# EAGLE library part 2X5 (library Ilya_Teach)
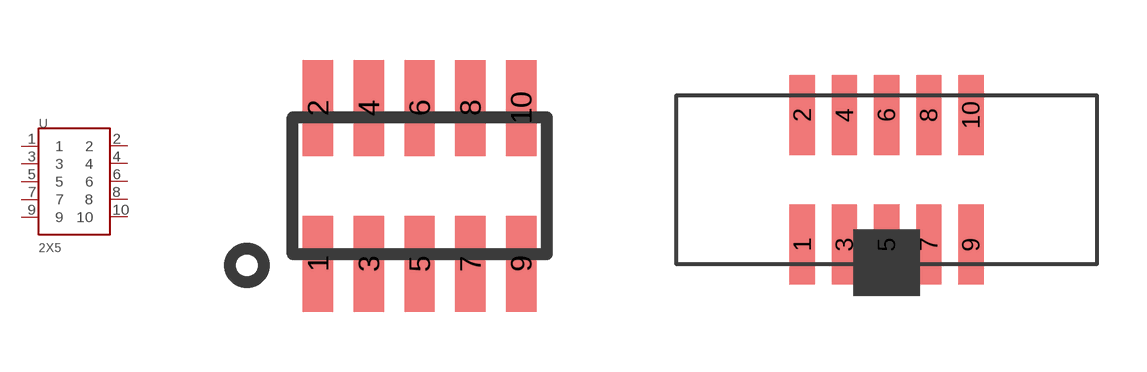
[diagram p2: symbol with the pads of 2X5-FCI_UNSHROUDED; footprints 2X5-FCI_UNSHROUDED, 2X5-1.27MM-SHROUDED]

Designator prefix -

## 2X5A  [2X5-FCI_UNSHROUDED]
1  1
2  2
3  3
4  4
5  5
6  6
7  7
8  8
9  9
10  10

## 2X5  [2X5-1.27MM-SHROUDED]
Pads as for 2X5-FCI_UNSHROUDED

## Footprint 2X5-FCI_UNSHROUDED (pad centres in mm)
smd 0.76 x 2.4: 1 -2.54,-1.95; 2 -2.54,1.95; 3 -1.27,-1.95; 4 -1.27,1.95; 5 0,-1.95; 6 0,1.95; 7 1.27,-1.95; 8 1.27,1.95; 9 2.54,-1.95; 10 2.54,1.95

## Footprint 2X5-1.27MM-SHROUDED (pad centres in mm)
smd 0.76 x 2.4: 1 -2.54,-1.95; 2 -2.54,1.95; 3 -1.27,-1.95; 4 -1.27,1.95; 5 0,-1.95; 6 0,1.95; 7 1.27,-1.95; 8 1.27,1.95; 9 2.54,-1.95; 10 2.54,1.95